# EAGLE library part VCNL4040 (library FaBo-Mems)
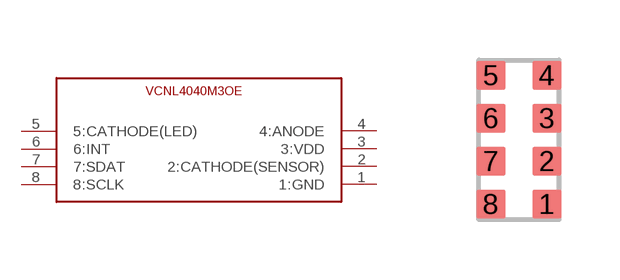
[diagram p45: symbol with the pads of VCNL4040M3OE; footprint VCNL4040M3OE]

Designator prefix -

## VCNL4040  [VCNL4040M3OE]
1  1:GND  sup
2  2:CATHODE(SENSOR)  in
3  3:VDD  pwr
4  4:ANODE  in
5  5:CATHODE(LED)  out
6  6:INT  out
7  7:SDAT
8  8:SCLK  in

## Footprint VCNL4040M3OE (pad centres in mm)
smd 0.725 x 0.725: 1 0.7,-1.613; 2 0.7,-0.537; 3 0.7,0.537; 4 0.7,1.613; 5 -0.7,1.613; 6 -0.7,0.537; 7 -0.7,-0.537; 8 -0.7,-1.613